# EAGLE library part LT3872 (library space-concordia-power)
Linear Technologies LT3872 Boost Regulator
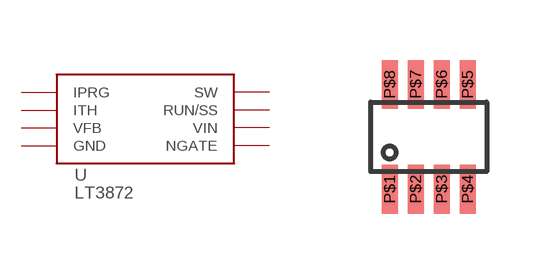
[diagram p2: symbol with the pads of TSOT23-8; footprint TSOT23-8]

Designator prefix -

## LT3872  [TSOT23-8]
P$1  IPRG
P$2  ITH
P$3  VFB
P$4  GND
P$5  NGATE
P$6  VIN
P$7  RUN/SS
P$8  SW

## Footprint TSOT23-8 (pad centres in mm)
smd 0.4 x 1.22: P$1 -0.975,-1.31; P$2 -0.325,-1.31; P$3 0.325,-1.31; P$4 0.975,-1.31; P$5 0.975,1.31; P$6 0.325,1.31; P$7 -0.325,1.31; P$8 -0.975,1.31